# EAGLE library part SAMTECRIBBONCONNECTOR (library SFDC BASELINE LIBRARY)
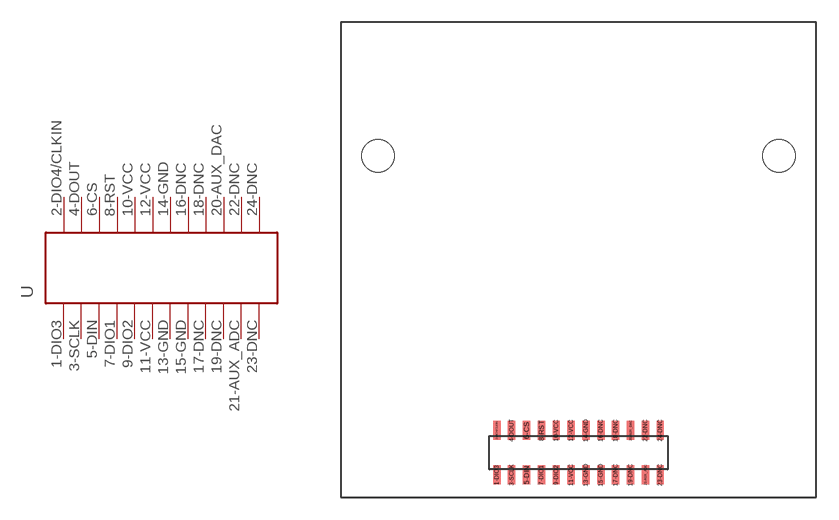
[diagram p0: symbol with the pads of SAMTECRIBBONCONNECTOR; footprint SAMTECRIBBONCONNECTOR]

Designator prefix -

## SAMTECRIBBONCONNECTOR  [SAMTECRIBBONCONNECTOR]
1-DIO3  1-DIO3
2-DIO4/CLKIN  2-DIO4/CLKIN
3-SCLK  3-SCLK
4-DOUT  4-DOUT
5-DIN  5-DIN
6-CS  6-CS
7-DIO1  7-DIO1
8-RST  8-RST
9-DIO2  9-DIO2
10-VCC  10-VCC
11-VCC  11-VCC
12-VCC  12-VCC
13-GND  13-GND
14-GND  14-GND
15-GND  15-GND
16-DNC  16-DNC
17-DNC  17-DNC
18-DNC  18-DNC
19-DNC  19-DNC
20-AUX_DAC  20-AUX_DAC
21-AUX_ADC  21-AUX_ADC
22-DNC  22-DNC
23-DNC  23-DNC
24-DNC  24-DNC

## Footprint SAMTECRIBBONCONNECTOR (pad centres in mm)
smd 0.5 x 1.27: 1-DIO3 -5.5,-1.5; 2-DIO4/CLKIN -5.5,1.5; 3-SCLK -4.5,-1.5; 4-DOUT -4.5,1.5; 5-DIN -3.5,-1.5; 6-CS -3.5,1.5; 7-DIO1 -2.5,-1.5; 8-RST -2.5,1.5; 9-DIO2 -1.5,-1.5; 10-VCC -1.5,1.5; 11-VCC -0.5,-1.5; 12-VCC -0.5,1.5; 13-GND 0.5,-1.5; 14-GND 0.5,1.5; 15-GND 1.5,-1.5; 16-DNC 1.5,1.5; 17-DNC 2.5,-1.5; 18-DNC 2.5,1.5; 19-DNC 3.5,-1.5; 20-AUX_DAC 3.5,1.5; 21-AUX_ADC 4.5,-1.5; 22-DNC 4.5,1.5; 23-DNC 5.5,-1.5; 24-DNC 5.5,1.5
hole 2.2 at 13.5,20
hole 2.2 at -13.5,20